# EAGLE library part MCP23008 (library mylib)
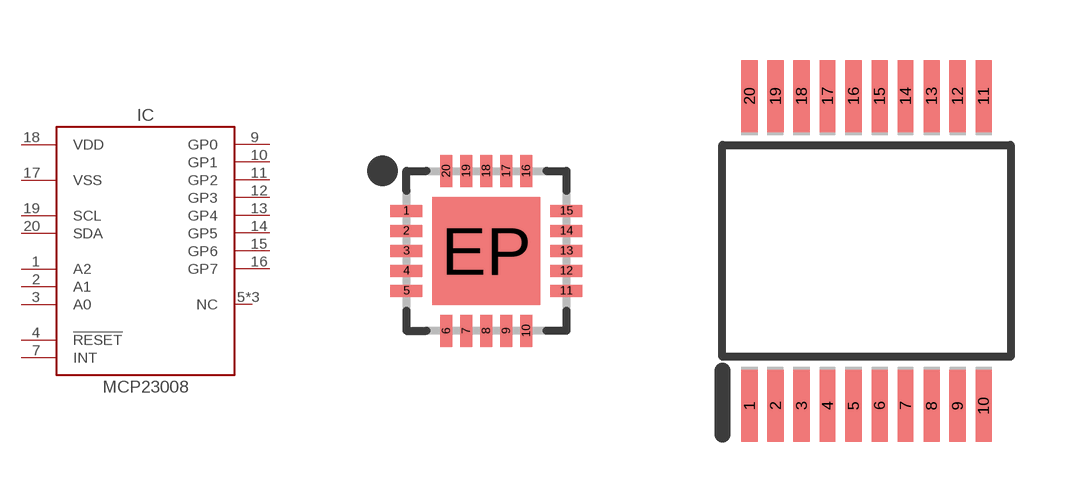
[diagram p127: symbol with the pads of QFN20-0.5P4.0X4.0; footprints QFN20-0.5P4.0X4.0, SOT65P720X530-20N]

Designator prefix IC

## MCP23008-E/ML  [QFN20-0.5P4.0X4.0]
1  A2
2  A1
3  A0
4  !RESET!
5  NC  nc
6  NC  nc
7  INT
8  NC  nc
9  GP0
10  GP1
11  GP2
12  GP3
13  GP4
14  GP5
15  GP6
16  GP7
17  VSS  pwr
18  VDD  pwr
19  SCL
20  SDA

## MCP23008/SS (DIGIKEY: MCP23008T-E/SSCT-ND; MOUSER: 579-MCP23008T-E/SS)  [SOT65P720X530-20N]
1  SCL
2  SDA
3  A2
4  A1
5  A0
6  !RESET!
7  NC  nc
8  INT
9  VSS  pwr
10  NC  nc
11  NC  nc
12  GP0
13  GP1
14  GP2
15  GP3
16  GP4
17  GP5
18  GP6
19  GP7
20  VDD  pwr

## Footprint QFN20-0.5P4.0X4.0 (pad centres in mm)
smd 0.8 x 0.3: 1 -2,1; 2 -2,0.5; 3 -2,0; 4 -2,-0.5; 5 -2,-1; 11 2,-1; 12 2,-0.5; 13 2,0; 14 2,0.5; 15 2,1
smd 0.3 x 0.8: 6 -1,-2; 7 -0.5,-2; 8 0,-2; 9 0.5,-2; 10 1,-2; 16 1,2; 17 0.5,2; 18 0,2; 19 -0.5,2; 20 -1,2
smd 2.7 x 2.7: EP 0,0

## Footprint SOT65P720X530-20N (pad centres in mm)
smd 0.4 x 1.8: 1 -2.925,-3.875; 2 -2.275,-3.875; 3 -1.625,-3.875; 4 -0.975,-3.875; 5 -0.325,-3.875; 6 0.325,-3.875; 7 0.975,-3.875; 8 1.625,-3.875; 9 2.275,-3.875; 10 2.925,-3.875; 11 2.925,3.875; 12 2.275,3.875; 13 1.625,3.875; 14 0.975,3.875; 15 0.325,3.875; 16 -0.325,3.875; 17 -0.975,3.875; 18 -1.625,3.875; 19 -2.275,3.875; 20 -2.925,3.875